# Altium schematic symbol library lc-filter.SCHLIB: 2 symbols
Pins are listed as number, name and electrical type; pins without a type are passive.

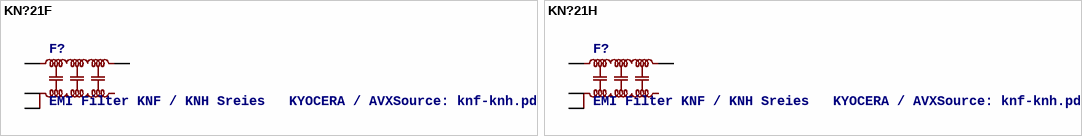
[diagram p0: symbols KN?21F to KN?21H]

## KN?21F
designator F?, comment EMI Filter KNF / KNH Sreies   KYOCERA / AVXSource: knf-knh.pdf
MPN: KNF21025-W3; MPN: KNF21050-W3; MPN: KNF21100-W3; MPN: KNF21400-W3; MF: AVX CORPORATION; OC_FARNELL: unknown; OC_NEWARK: 53J2127; OC_NEWARK: 87H7769; OC_NEWARK: 53J2128; OC_NEWARK: unknown; OC_NEWARK: 53J2129
footprint KNF21
pins: 1, 2@1, 2@2, 3

## KN?21H
designator F?, comment EMI Filter KNF / KNH Sreies   KYOCERA / AVXSource: knf-knh.pdf
MPN: KNH21104-3AA; MPN: KNH21220-3AA; MPN: KNH21221-3AA; MPN: KNH21470-3AA; MPN: KNH21471-3AA; MPN: KNH21473-3AA; MF: AVX CORPORATION; OC_FARNELL: unknown; OC_NEWARK: unknown; OC_NEWARK: 97H4301; OC_NEWARK: 53J2135; OC_NEWARK: 53J2136; OC_NEWARK: 53J2137; OC_NEWARK: 53J2138; OC_NEWARK: 53J2139
footprint KNF21
pins: 1, 2@1, 2@2, 3